# Altium footprint library Library - Copy.PcbLib: 38 footprints (part 3 of 3)
Each footprint in its own frame and in the unit in brackets; x right, y up, seen from the top. Pads: shape width x height; smd on the part's side, far side on the other; paste and mask are expansions set on the pad; w line width, h text height; cw(c..) or ccw(c..) is an arc to the next point about the centre after c.
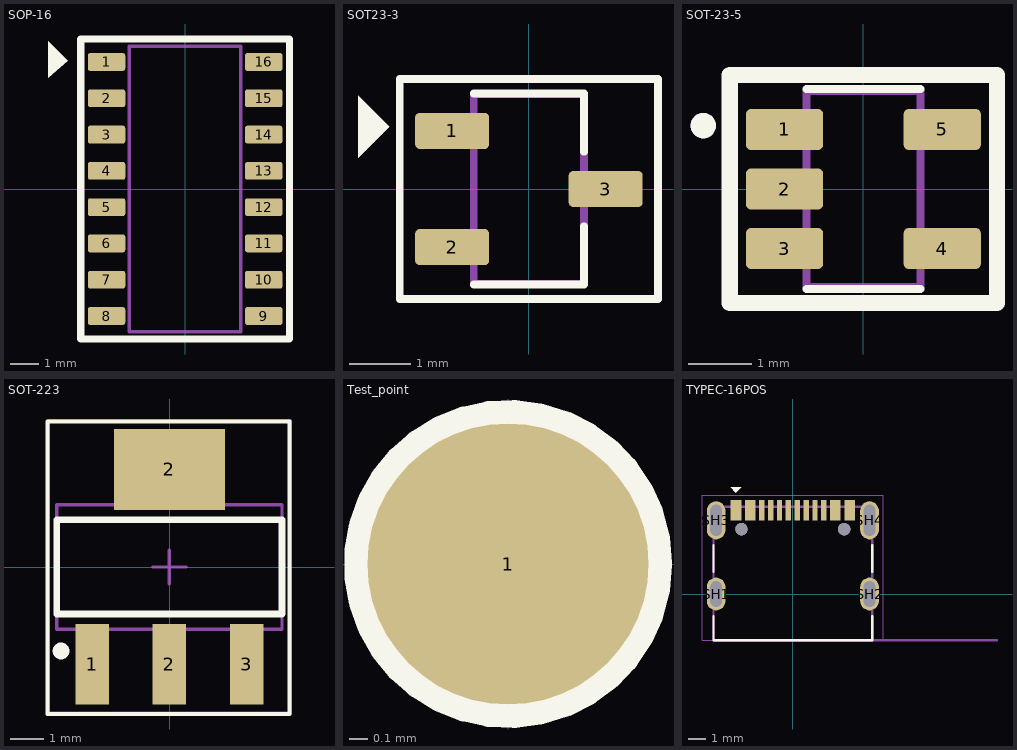
[diagram p2: the footprints below, top view; thin cyan lines are the x and y axes]

## SOP-16 [mm]
pads (16):
  rrect25% 1.31x0.62 smd: 1(-2.75,4.445) 2(-2.75,3.175) 3(-2.75,1.905) 4(-2.75,0.635) 5(-2.75,-0.635) 6(-2.75,-1.905) 7(-2.75,-3.175) 8(-2.75,-4.445) 9(2.75,-4.445) 10(2.75,-3.175) 11(2.75,-1.905) 12(2.75,-0.635) 13(2.75,0.635) 14(2.75,1.905) 15(2.75,3.175) 16(2.75,4.445)
Top Overlay:
  region: -4.784,3.895 -4.784,5.165 -4.106,4.487
  lines w0.254: -3.655,-5.25 -3.655,5.25 3.655,5.25 3.655,-5.25 -3.655,-5.25
Mechanical 13:
  lines w0.127: -1.95,-5 -1.95,5 1.95,5 1.95,-5 -1.95,-5
Mechanical 15:
  lines w0.05: -3.655,-5.25 -3.655,5.25 3.655,5.25 3.655,-5.25 -3.655,-5.25
3D body "step_temp.STEP": height 1.8, standoff 0, extent -3,-5 3,5

## SOT23-3 [mm]
pads (3):
  rrect25% 1.21x0.59 smd: 1(-1.255,0.95) 2(-1.255,-0.95) 3(1.255,0)
Top Overlay:
  region: -2.794,1.524 -2.794,0.508 -2.286,1.016
  lines w0.127: -0.9,-1.559 0.9,-1.559 0.9,-0.609 ; -0.9,1.559 0.9,1.559 0.9,0.609 ; -2.11,-1.8 2.11,-1.8 2.11,1.8 -2.11,1.8 -2.11,-1.8
Mechanical 13:
  region: -2.794,1.524 -2.794,0.508 -2.286,1.016
  lines w0.127: -0.9,-1.55 0.9,-1.55 0.9,1.55 -0.9,1.55 -0.9,-1.55
Mechanical 15:
  lines w0.05: -2.11,-1.8 -2.11,1.8 2.11,1.8 2.11,-1.8 -2.11,-1.8
3D body "SOT-23-3L_AOS.step": height 1.25, standoff 0, extent -1.524,-1.524 1.474,1.574

## SOT-23-5 [mm]
pads (5):
  rrect25% 1.22x0.65 smd: 1(-1.245,0.94) 2(-1.245,0) 3(-1.245,-0.94) 4(1.245,-0.94) 5(1.245,0.94)
Top Overlay:
  circle w0.2: c-2.527,1 r0.1
  lines w0.127: -0.9,-1.579 0.9,-1.579 ; -0.9,1.579 0.9,1.579
  lines w0.254: -2.11,-1.8 -2.11,1.8 2.11,1.8 2.11,-1.8 -2.11,-1.8
Mechanical 13:
  circle w0.2: c-2.527,1 r0.1
  lines w0.127: -0.9,-1.55 0.9,-1.55 0.9,1.55 -0.9,1.55 -0.9,-1.55
Mechanical 15:
  lines w0.05: -2.11,-1.8 2.11,-1.8 2.11,1.8 -2.11,1.8 -2.11,-1.8
3D body "step_temp.STEP": height 1.3, standoff 0, extent -1.397,-1.448 1.397,1.448

## SOT-223 [mm]
pads (4):
  rect 1x2.4 smd: 1(-2.306,-2.893) 2(-0.006,-2.893) 3(2.294,-2.893)
  rect 3.3x2.4 smd: 2(-0.006,2.907)
Top Overlay:
  circle w0.25: c-3.231,-2.493 r0.125
  lines w0.127: -3.631,-4.369 -3.631,4.331 3.569,4.331 3.569,-4.369 -3.631,-4.369
  lines w0.2: -3.356,-1.393 -3.356,1.407 3.344,1.407 3.344,-1.393 -3.356,-1.393
Mechanical 13:
  lines w0.1: -3.356,-1.843 -3.356,1.857 3.344,1.857 3.344,-1.843 -3.356,-1.843
Mechanical 15:
  lines w0.1: -0.506,0.007 0.494,0.007 ; -0.006,-0.493 -0.006,0.507 ; -3.606,-4.343 -3.606,4.357 3.594,4.357 3.594,-4.343 -3.606,-4.343
3D body "SW3DPS-SOT-223-DEFAULT.step": height 1.68, standoff 0, extent -3.256,-3.549 3.244,3.411

## Test_point [mm]
pads (1):
  round 1.5 smd: 1(0,0)
Top Overlay:
  circle w0.15: c0,0 r0.8

## TYPEC-16POS [mm]
pads (18):
  rect 0.6x1.15 smd: A1_B12(-3.2,4.725) A4_B9(-2.4,4.725) A9_B4(2.4,4.725) A12_B1(3.2,4.725)
  rect 0.3x1.15 smd: A5(-1.25,4.725) A6(-0.25,4.725) A7(0.25,4.725) A8(1.25,4.725) B5(1.75,4.725) B6(0.75,4.725) B7(-0.75,4.725) B8(-1.75,4.725)
  oval 1.05x1.85 hole 0.65 slot 1.45 at 90 deg: SH1(-4.32,0) SH2(4.32,0)
  oval 1.05x2.15 hole 0.65 slot 1.75 at 90 deg: SH3(-4.32,4.15) SH4(4.32,4.15)
  round 0.7 hole 0.7 unplated: ""(-2.89,3.65) ""(2.89,3.65)
Top Overlay:
  region: -3.505,6.02 -2.896,6.02 -3.2,5.715
  lines w0.127: -4.47,-1.25 -4.47,-2.6 4.47,-2.6 4.47,-1.25 ; -4.47,1.25 -4.47,2.75 ; 4.47,1.25 4.47,2.75
Mechanical 13:
  lines w0.127: 11.5,-2.6 4.47,-2.6 ; -4.47,-2.6 -4.47,-2.64 4.47,-2.64 4.47,-2.6 ; -4.47,-2.6 -4.47,4.91 4.47,4.91 4.47,-2.6 ; -4.47,-2.6 4.47,-2.6
  text "PCB EDGE" at 5.5,-2.25 h0.81
Mechanical 15:
  lines w0.05: -5.095,-2.6 -5.095,5.55 5.095,5.55 5.095,-2.6 -5.095,-2.6
3D body "step_temp.STEP": height 3.41, standoff -1.1, extent -4.47,-2.762 4.47,5.048